# Altium schematic symbol library CC1210MKX5R7BB107.SchLib: 1 symbol
Pins are listed as number, name and electrical type; pins without a type are passive.

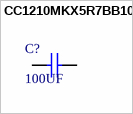
[diagram p0: symbol CC1210MKX5R7BB107]

## CC1210MKX5R7BB107
designator C?, comment 100UF
CAP CER 100UF 16V X5R 1210; Manufacturer Part Number: CC1210MKX5R7BB107; Manufacturer: Yageo; Capacitance: 100µF; Tolerance: ±20%; Description: Multilayer Ceramic Capacitors MLCC - SMD/SMT 100M nF X5R 20% 16 Volts; Supplier 1: Digi-Key; Family: Ceramic Capacitors; Series: CC; Packaging: Tape & Reel (TR); Voltage - Rated: 16V; Temperature Coefficient: X5R; Mounting Type: Surface Mount, MLCC; Operating Temperature: -55°C ~ 85°C; Applications: General Purpose; Ratings: -; Package / Case: 1210 (3225 Metric); Size / Dimension: 0.126" L x 0.098" W (3.20mm x 2.50mm); Height - Seated (Max): -; Thickness (Max): 0.110" (2.80mm); Lead Spacing: -; Features: -; Lead Style: -; ComponentLink1URL: http://www.mouser.com/ds/2/447/Yageo_UPY-GP_NP0_16V-to-50V_9-358835.pdf; ComponentLink1Description: http://www.mouser.com/ds/2/447/Yageo_UPY-GP_NP0_16V-to-50V_9-358835.pdf; ComponentLink2URL: http://www.yageo.com/documents/recent/UPY-GPHC_X5R_4V-to-50V_25.pdf; ComponentLink2Description: http://www.yageo.com/documents/recent/UPY-GPHC_X5R_4V-to-50V_25.pdf; Supplier Part Number 1: 311-2052-1-ND; Stock 1: 19901; Pricing 1: 1=1.82, 10=1.437, 100=1.0778 (USD); Category: Capacitors
pins: 1, 2